# EAGLE library part GLCD_240X320 (library GLCD_240X320)
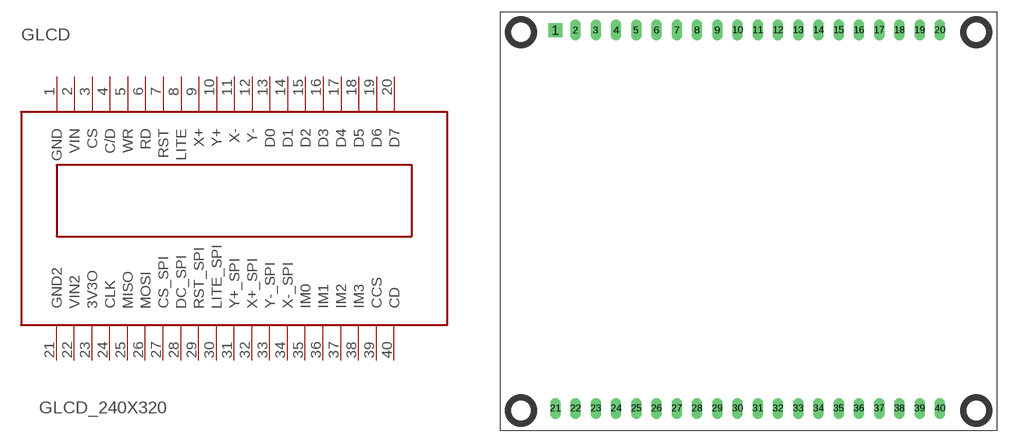
[diagram p0: symbol with the pads of GLCD_240X320; footprint GLCD_240X320]

Designator prefix GLCD

## GLCD_240X320  [GLCD_240X320]
1  GND  pwr
2  VIN  pwr
3  CS
4  C/D
5  WR
6  RD
7  RST
8  LITE
9  X+
10  Y+
11  X-
12  Y-
13  D0
14  D1
15  D2
16  D3
17  D4
18  D5
19  D6
20  D7
21  GND2  pwr
22  VIN2  pwr
23  3V3O  pwr
24  CLK
25  MISO
26  MOSI
27  CS_SPI
28  DC_SPI
29  RST_SPI
30  LITE_SPI
31  Y+_SPI
32  X+_SPI
33  Y-_SPI
34  X-_SPI
35  IM0
36  IM1
37  IM2
38  IM3
39  CCS
40  CD

## Footprint GLCD_240X320 (pad centres in mm)
drill 0.8 pad 1.778 square: 1 6.858,50.292
drill 0.8 pad 1.27 long: 2 9.398,50.292; 3 11.938,50.292; 4 14.478,50.292; 5 17.018,50.292; 6 19.558,50.292; 7 22.098,50.292; 8 24.638,50.292; 9 27.178,50.292; 10 29.718,50.292; 11 32.258,50.292; 12 34.798,50.292; 13 37.338,50.292; 14 39.878,50.292; 15 42.418,50.292; 16 44.958,50.292; 17 47.498,50.292; 18 50.038,50.292; 19 52.578,50.292; 20 55.118,50.292; 21 6.858,2.794; 22 9.398,2.794; 23 11.938,2.794; 24 14.478,2.794; 25 17.018,2.794; 26 19.558,2.794; 27 22.098,2.794; 28 24.638,2.794; 29 27.178,2.794; 30 29.718,2.794; 31 32.258,2.794; 32 34.798,2.794; 33 37.338,2.794; 34 39.878,2.794; 35 42.418,2.794; 36 44.958,2.794; 37 47.498,2.794; 38 50.038,2.794; 39 52.578,2.794; 40 55.118,2.794